# Altium integrated library TI Amplifiers and Linear Special Function Amplifier.IntLib: 708 symbols (part 30 of 47)
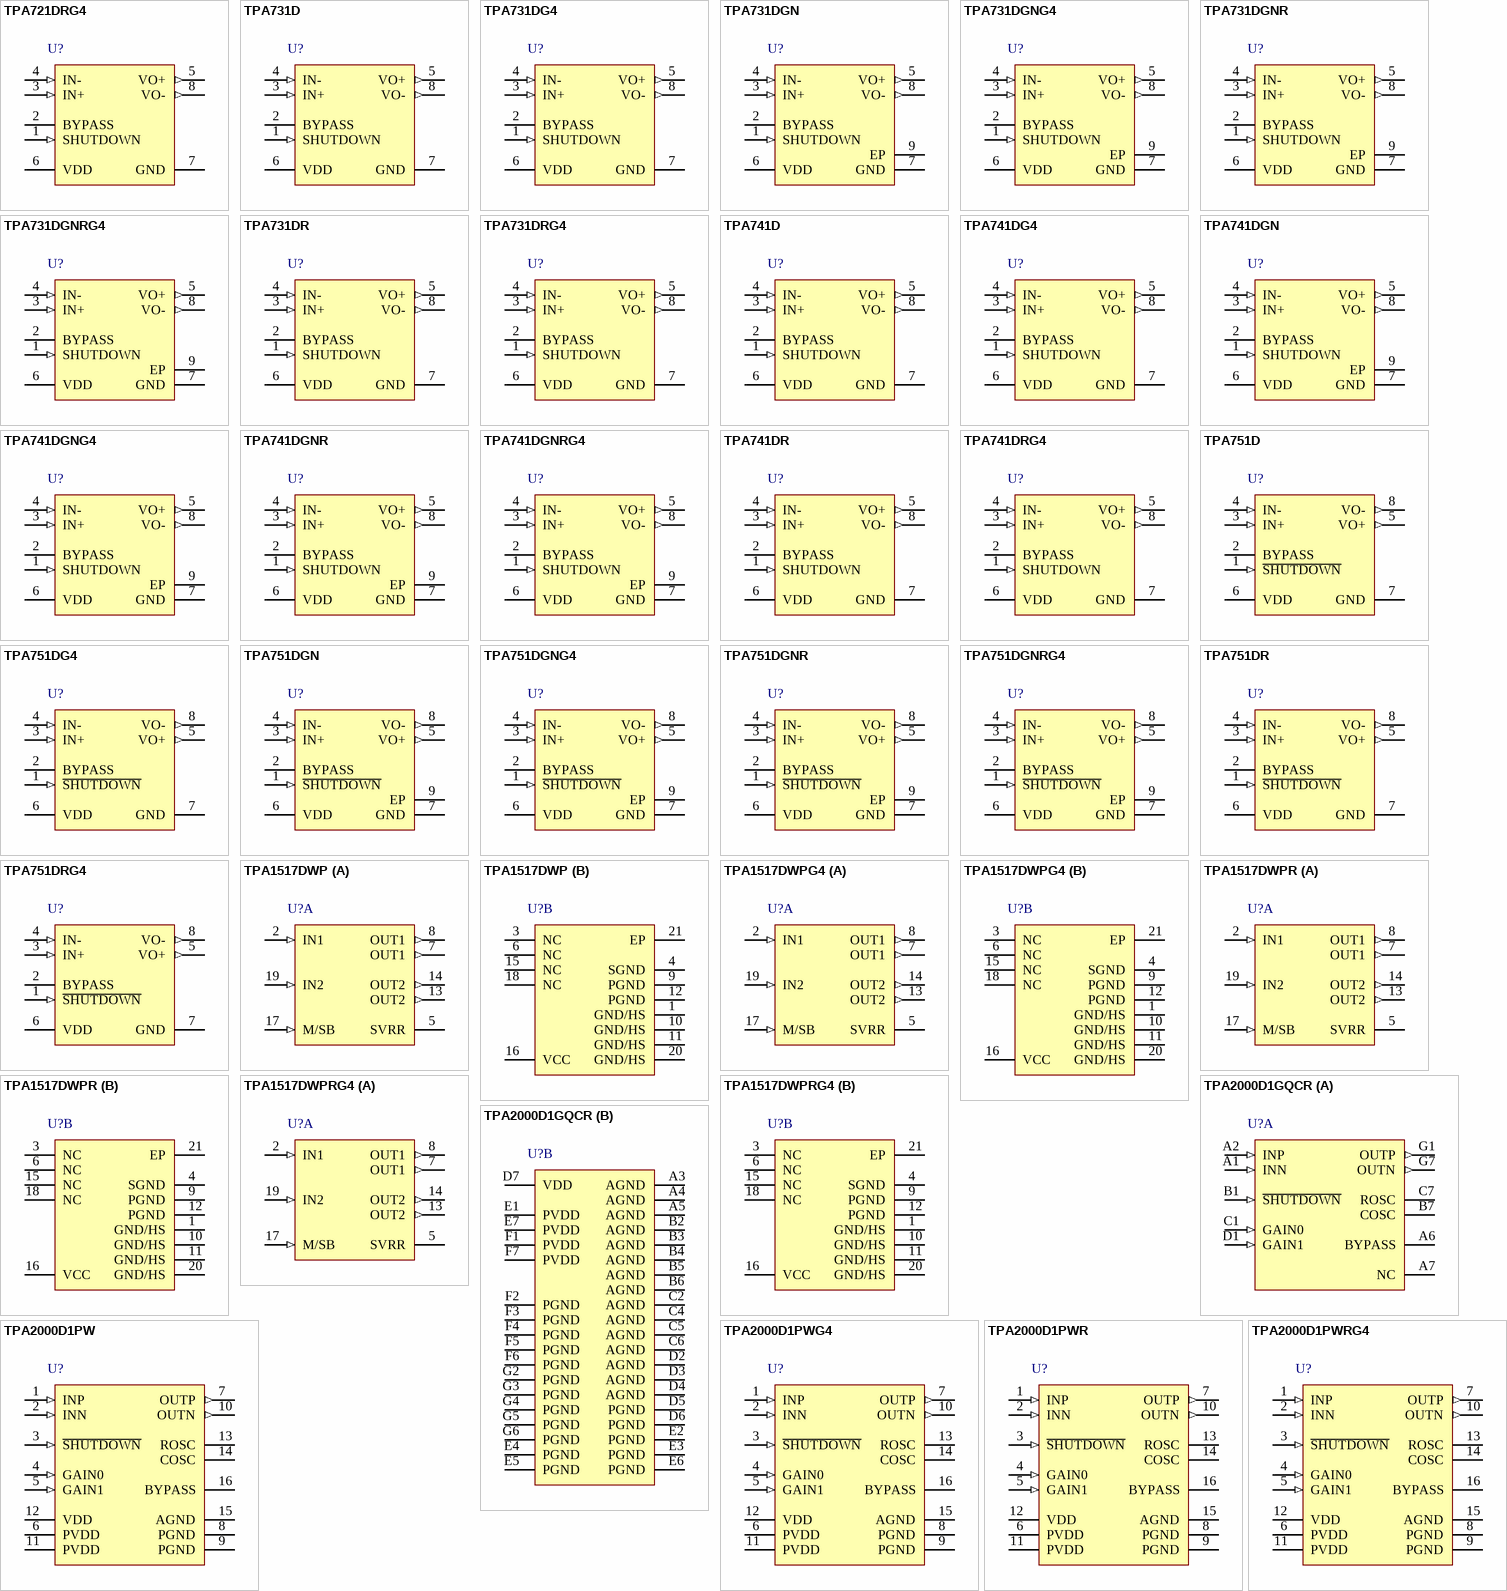
[diagram p68: symbols TPA721DRG4 to TPA2000D1PWRG4]

## TPA1517DWP
designator U?
Stereo, Medium Power, Class-AB Audio Amplifier, -40 to 85 degC, 20-pin SOP (DWP20), Green (RoHS & no Sb/Br); Manufacturer: Texas Instruments; PartNumber: TPA1517DWP; Analog Supply Max [V]: 18; Analog Supply Min [V]: 9.5; Input Type: Analog; Max. Number of Speaker Outputs: 2; SubFamily: Mid/High-Power Amplifier; DatasheetVersion: SLOS162D; PackageVersion: 4147575/C, 02/2005; PackageReference: DWP20-3905X3265TP; PackageDescription: 20-Pin PowerPAD(TM) Plastic Small-Outline Package, Body 12.825 x 7.52 mm, Pitch 1.27 mm; Supplier 1: Digi-Key; Supplier Part Number 1: 296-7007-5-ND; Supplier 2: Farnell; Supplier Part Number 2: 1212376; Supplier 3: Newark; Supplier Part Number 3: 74K3971; Supplier 4: Mouser; Supplier Part Number 4: 595-TPA1517DWP; Eco-Plan: Green (RoHS & no Sb/Br); Power Stage Supply Min(V): 9.5; Mounting Technology: Surface Mount; ComponentLink1Description: Manufacturer URL; ComponentLink1URL: http://www.ti.com/; ComponentLink2Description: Datasheet; ComponentLink2URL: http://www.ti.com/general/docs/lit/getliterature.tsp?genericPartNumber=TPA1517&fileType=pdf; ComponentLink3Description: Package Specification; ComponentLink3URL: http://www.ti.com/litv/pdf/mpds032b
footprint TI-DWP20-3905X3265TP_N (SOP, 20-Leads, Body 12.83x7.52mm, Pitch 1.27mm, Thermal Pad 4.32x3.81mm, IPC Medium Density)
footprint TI-DWP20-3905X3265TP_L (SOP, 20-Leads, Body 12.83x7.52mm, Pitch 1.27mm, Thermal Pad 4.32x3.81mm, IPC High Density)
footprint TI-DWP20-3905X3265TP_M (SOP, 20-Leads, Body 12.83x7.52mm, Pitch 1.27mm, Thermal Pad 4.32x3.81mm, IPC Low Density)
part A pins: 2 IN1 (in) "IN1 is the audio input for channel 1.", 5 SVRR "SVRR is the midrail bypass.", 7 OUT1 (out) "OUT1 is the audio output for channel 1.", 8 OUT1 (out) "OUT1 is the audio output for channel 1.", 13 OUT2 (out) "OUT2 is the audio output for channel 2.", 14 OUT2 (out) "OUT2 is the audio output for channel 2.", 17 M/SB (in) "M/SB is the mute/standby mode enable. When held at less than 2 V, this signal enables the TPA1517 for standby operation. When held between 3.5 V and 8.2 V, this signal enables the TPA1517 for mute operation. When held above (See Datasheet)", 19 IN2 (in) "IN2 in the audio input for channel 2."
part B pins: 1 GND/HS (power) "GND/HS are the ground and heatsink connections. All GND/HS terminals are connected directly to the mount pad for thermal-enhanced operation.", 3 NC "No connection", 4 SGND (power) "SGND is the input signal ground reference.", 6 NC "No connection", 9 PGND (power) "PGND is the power ground reference.", 10 GND/HS (power) "GND/HS are the ground and heatsink connections. All GND/HS terminals are connected directly to the mount pad for thermal-enhanced operation.", 11 GND/HS (power) "GND/HS are the ground and heatsink connections. All GND/HS terminals are connected directly to the mount pad for thermal-enhanced operation.", 12 PGND (power) "PGND is the power ground reference.", 15 NC "No connection", 16 VCC (power) "VCC is the supply voltage input.", 18 NC "No connection", 20 GND/HS (power) "GND/HS are the ground and heatsink connections. All GND/HS terminals are connected directly to the mount pad for thermal-enhanced operation.", 21 EP "Exposed Pad"

## TPA1517DWPG4
designator U?
Stereo, Medium Power, Class-AB Audio Amplifier, -40 to 85 degC, 20-pin SOP (DWP20), Green (RoHS & no Sb/Br); Manufacturer: Texas Instruments; PartNumber: TPA1517DWPG4; Analog Supply Max [V]: 18; Analog Supply Min [V]: 9.5; Input Type: Analog; Max. Number of Speaker Outputs: 2; SubFamily: Mid/High-Power Amplifier; DatasheetVersion: SLOS162D; PackageVersion: 4147575/C, 02/2005; PackageReference: DWP20-3905X3265TP; PackageDescription: 20-Pin PowerPAD(TM) Plastic Small-Outline Package, Body 12.825 x 7.52 mm, Pitch 1.27 mm; Supplier 1: Digi-Key; Supplier Part Number 1: TPA1517DWPG4-ND; Supplier 2: Newark; Supplier Part Number 2: 04M0229; Supplier 3: Mouser; Supplier Part Number 3: 595-TPA1517DWPG4; Eco-Plan: Green (RoHS & no Sb/Br); Power Stage Supply Min(V): 9.5; Mounting Technology: Surface Mount; ComponentLink1Description: Manufacturer URL; ComponentLink1URL: http://www.ti.com/; ComponentLink2Description: Datasheet; ComponentLink2URL: http://www.ti.com/general/docs/lit/getliterature.tsp?genericPartNumber=TPA1517&fileType=pdf; ComponentLink3Description: Package Specification; ComponentLink3URL: http://www.ti.com/litv/pdf/mpds032b
footprint TI-DWP20-3905X3265TP_N (SOP, 20-Leads, Body 12.83x7.52mm, Pitch 1.27mm, Thermal Pad 4.32x3.81mm, IPC Medium Density)
footprint TI-DWP20-3905X3265TP_L (SOP, 20-Leads, Body 12.83x7.52mm, Pitch 1.27mm, Thermal Pad 4.32x3.81mm, IPC High Density)
footprint TI-DWP20-3905X3265TP_M (SOP, 20-Leads, Body 12.83x7.52mm, Pitch 1.27mm, Thermal Pad 4.32x3.81mm, IPC Low Density)
part A pins: 2 IN1 (in) "IN1 is the audio input for channel 1.", 5 SVRR "SVRR is the midrail bypass.", 7 OUT1 (out) "OUT1 is the audio output for channel 1.", 8 OUT1 (out) "OUT1 is the audio output for channel 1.", 13 OUT2 (out) "OUT2 is the audio output for channel 2.", 14 OUT2 (out) "OUT2 is the audio output for channel 2.", 17 M/SB (in) "M/SB is the mute/standby mode enable. When held at less than 2 V, this signal enables the TPA1517 for standby operation. When held between 3.5 V and 8.2 V, this signal enables the TPA1517 for mute operation. When held above (See Datasheet)", 19 IN2 (in) "IN2 in the audio input for channel 2."
part B pins: 1 GND/HS (power) "GND/HS are the ground and heatsink connections. All GND/HS terminals are connected directly to the mount pad for thermal-enhanced operation.", 3 NC "No connection", 4 SGND (power) "SGND is the input signal ground reference.", 6 NC "No connection", 9 PGND (power) "PGND is the power ground reference.", 10 GND/HS (power) "GND/HS are the ground and heatsink connections. All GND/HS terminals are connected directly to the mount pad for thermal-enhanced operation.", 11 GND/HS (power) "GND/HS are the ground and heatsink connections. All GND/HS terminals are connected directly to the mount pad for thermal-enhanced operation.", 12 PGND (power) "PGND is the power ground reference.", 15 NC "No connection", 16 VCC (power) "VCC is the supply voltage input.", 18 NC "No connection", 20 GND/HS (power) "GND/HS are the ground and heatsink connections. All GND/HS terminals are connected directly to the mount pad for thermal-enhanced operation.", 21 EP "Exposed Pad"

## TPA1517DWPR
designator U?
Stereo, Medium Power, Class-AB Audio Amplifier, -40 to 85 degC, 20-pin SOP (DWP20), Green (RoHS & no Sb/Br); Manufacturer: Texas Instruments; PartNumber: TPA1517DWPR; Analog Supply Max [V]: 18; Analog Supply Min [V]: 9.5; Input Type: Analog; Max. Number of Speaker Outputs: 2; SubFamily: Mid/High-Power Amplifier; DatasheetVersion: SLOS162D; PackageVersion: 4147575/C, 02/2005; PackageReference: DWP20-3905X3265TP; PackageDescription: 20-Pin PowerPAD(TM) Plastic Small-Outline Package, Body 12.825 x 7.52 mm, Pitch 1.27 mm; Supplier 1: Digi-Key; Supplier Part Number 1: 296-7007-2-ND; Supplier 2: Digi-Key; Supplier Part Number 2: 296-7007-1-ND; Supplier 3: Digi-Key; Supplier Part Number 3: 296-7007-6-ND; Supplier 4: Farnell; Supplier Part Number 4: 1535751; Supplier 5: Newark; Supplier Part Number 5: 76C9773; Supplier 6: Mouser; Supplier Part Number 6: 595-TPA1517DWPR; Eco-Plan: Green (RoHS & no Sb/Br); Power Stage Supply Min(V): 9.5; Mounting Technology: Surface Mount; ComponentLink1Description: Manufacturer URL; ComponentLink1URL: http://www.ti.com/; ComponentLink2Description: Datasheet; ComponentLink2URL: http://www.ti.com/general/docs/lit/getliterature.tsp?genericPartNumber=TPA1517&fileType=pdf; ComponentLink3Description: Package Specification; ComponentLink3URL: http://www.ti.com/litv/pdf/mpds032b
footprint TI-DWP20-3905X3265TP_N (SOP, 20-Leads, Body 12.83x7.52mm, Pitch 1.27mm, Thermal Pad 4.32x3.81mm, IPC Medium Density)
footprint TI-DWP20-3905X3265TP_L (SOP, 20-Leads, Body 12.83x7.52mm, Pitch 1.27mm, Thermal Pad 4.32x3.81mm, IPC High Density)
footprint TI-DWP20-3905X3265TP_M (SOP, 20-Leads, Body 12.83x7.52mm, Pitch 1.27mm, Thermal Pad 4.32x3.81mm, IPC Low Density)
part A pins: 2 IN1 (in) "IN1 is the audio input for channel 1.", 5 SVRR "SVRR is the midrail bypass.", 7 OUT1 (out) "OUT1 is the audio output for channel 1.", 8 OUT1 (out) "OUT1 is the audio output for channel 1.", 13 OUT2 (out) "OUT2 is the audio output for channel 2.", 14 OUT2 (out) "OUT2 is the audio output for channel 2.", 17 M/SB (in) "M/SB is the mute/standby mode enable. When held at less than 2 V, this signal enables the TPA1517 for standby operation. When held between 3.5 V and 8.2 V, this signal enables the TPA1517 for mute operation. When held above (See Datasheet)", 19 IN2 (in) "IN2 in the audio input for channel 2."
part B pins: 1 GND/HS (power) "GND/HS are the ground and heatsink connections. All GND/HS terminals are connected directly to the mount pad for thermal-enhanced operation.", 3 NC "No connection", 4 SGND (power) "SGND is the input signal ground reference.", 6 NC "No connection", 9 PGND (power) "PGND is the power ground reference.", 10 GND/HS (power) "GND/HS are the ground and heatsink connections. All GND/HS terminals are connected directly to the mount pad for thermal-enhanced operation.", 11 GND/HS (power) "GND/HS are the ground and heatsink connections. All GND/HS terminals are connected directly to the mount pad for thermal-enhanced operation.", 12 PGND (power) "PGND is the power ground reference.", 15 NC "No connection", 16 VCC (power) "VCC is the supply voltage input.", 18 NC "No connection", 20 GND/HS (power) "GND/HS are the ground and heatsink connections. All GND/HS terminals are connected directly to the mount pad for thermal-enhanced operation.", 21 EP "Exposed Pad"

## TPA1517DWPRG4
designator U?
Stereo, Medium Power, Class-AB Audio Amplifier, -40 to 85 degC, 20-pin SOP (DWP20), Green (RoHS & no Sb/Br); Manufacturer: Texas Instruments; PartNumber: TPA1517DWPRG4; Analog Supply Max [V]: 18; Analog Supply Min [V]: 9.5; Input Type: Analog; Max. Number of Speaker Outputs: 2; SubFamily: Mid/High-Power Amplifier; DatasheetVersion: SLOS162D; PackageVersion: 4147575/C, 02/2005; PackageReference: DWP20-3905X3265TP; PackageDescription: 20-Pin PowerPAD(TM) Plastic Small-Outline Package, Body 12.825 x 7.52 mm, Pitch 1.27 mm; Supplier 1: Digi-Key; Supplier Part Number 1: TPA1517DWPRG4-ND; Supplier 2: Newark; Supplier Part Number 2: 24K5772; Supplier 3: Mouser; Supplier Part Number 3: 595-TPA1517DWPRG4; Eco-Plan: Green (RoHS & no Sb/Br); Power Stage Supply Min(V): 9.5; Mounting Technology: Surface Mount; ComponentLink1Description: Manufacturer URL; ComponentLink1URL: http://www.ti.com/; ComponentLink2Description: Datasheet; ComponentLink2URL: http://www.ti.com/general/docs/lit/getliterature.tsp?genericPartNumber=TPA1517&fileType=pdf; ComponentLink3Description: Package Specification; ComponentLink3URL: http://www.ti.com/litv/pdf/mpds032b
footprint TI-DWP20-3905X3265TP_N (SOP, 20-Leads, Body 12.83x7.52mm, Pitch 1.27mm, Thermal Pad 4.32x3.81mm, IPC Medium Density)
footprint TI-DWP20-3905X3265TP_L (SOP, 20-Leads, Body 12.83x7.52mm, Pitch 1.27mm, Thermal Pad 4.32x3.81mm, IPC High Density)
footprint TI-DWP20-3905X3265TP_M (SOP, 20-Leads, Body 12.83x7.52mm, Pitch 1.27mm, Thermal Pad 4.32x3.81mm, IPC Low Density)
part A pins: 2 IN1 (in) "IN1 is the audio input for channel 1.", 5 SVRR "SVRR is the midrail bypass.", 7 OUT1 (out) "OUT1 is the audio output for channel 1.", 8 OUT1 (out) "OUT1 is the audio output for channel 1.", 13 OUT2 (out) "OUT2 is the audio output for channel 2.", 14 OUT2 (out) "OUT2 is the audio output for channel 2.", 17 M/SB (in) "M/SB is the mute/standby mode enable. When held at less than 2 V, this signal enables the TPA1517 for standby operation. When held between 3.5 V and 8.2 V, this signal enables the TPA1517 for mute operation. When held above (See Datasheet)", 19 IN2 (in) "IN2 in the audio input for channel 2."
part B pins: 1 GND/HS (power) "GND/HS are the ground and heatsink connections. All GND/HS terminals are connected directly to the mount pad for thermal-enhanced operation.", 3 NC "No connection", 4 SGND (power) "SGND is the input signal ground reference.", 6 NC "No connection", 9 PGND (power) "PGND is the power ground reference.", 10 GND/HS (power) "GND/HS are the ground and heatsink connections. All GND/HS terminals are connected directly to the mount pad for thermal-enhanced operation.", 11 GND/HS (power) "GND/HS are the ground and heatsink connections. All GND/HS terminals are connected directly to the mount pad for thermal-enhanced operation.", 12 PGND (power) "PGND is the power ground reference.", 15 NC "No connection", 16 VCC (power) "VCC is the supply voltage input.", 18 NC "No connection", 20 GND/HS (power) "GND/HS are the ground and heatsink connections. All GND/HS terminals are connected directly to the mount pad for thermal-enhanced operation.", 21 EP "Exposed Pad"

## TPA2000D1GQCR
designator U?
2-W Mono Class-D Audio Amplifier, -40 to 85 degC, 48-pin BGA (GQC48); Manufacturer: Texas Instruments; PartNumber: TPA2000D1GQCR; Output Power(W): 2; PSRR(dB): -77; SubFamily: Dynamic Speaker; Supply Max(Max)(Volt): 5.5; Supply Min(Min)(Volt): 2.7; DatasheetVersion: SLOS328F; PackageVersion: 4200460/E, 01/2002; PackageReference: GQC48; PackageDescription: 48-Ball Plastic Grid Array, Body 4 x 4 mm, Pitch 0.5 mm; Supplier 1: Digi-Key; Supplier Part Number 1: 296-15638-2-ND; Supplier 2: Digi-Key; Supplier Part Number 2: 296-15638-1-ND; Supplier 3: Digi-Key; Supplier Part Number 3: 296-15638-6-ND; Supplier 4: Mouser; Supplier Part Number 4: 595-TPA2000D1GQCR; Speaker Amp Type: Class-D; Speaker Channels: Mono; Mounting Technology: Surface Mount; Code_JEDEC: MO-225; ComponentLink1Description: Manufacturer URL; ComponentLink1URL: http://www.ti.com/; ComponentLink2Description: Datasheet; ComponentLink2URL: http://www.ti.com/general/docs/lit/getliterature.tsp?genericPartNumber=TPA2000D1&fileType=pdf; ComponentLink3Description: Package Specification; ComponentLink3URL: http://www.ti.com/litv/pdf/mplg008d
footprint TI-GQC48 (BGA, 48-Balls, Body 4x4mm, Pitch 0.5mm)
part A pins: A1 INN (in) "Negative differential input", A2 INP (in) "Positive differential input", A6 BYPASS "Connect capacitor to ground for BYPASS voltage filtering.", A7 NC "No internal connection, still requires a pad for the ball.", B1 ~{SHUTDOWN} (in) "Places the amplifier in shutdown mode if a TTL logic low is placed on this terminal, and normal operation if a TTL logic high is placed on this terminal.", B7 COSC "Connect capacitor to ground to set oscillation frequency.", C1 GAIN0 (in) "Bit 0 of gain control (TTL logic level)", C7 ROSC "Connect resistor to ground to set oscillation frequency.", D1 GAIN1 (in) "Bit 1 of gain control (TTL logic level)", G1 OUTP (out) "Positive BTL output", G7 OUTN (out) "Negative BTL output"
part B pins: A3 AGND (power) "Analog ground", A4 AGND (power) "Analog ground", A5 AGND (power) "Analog ground", B2 AGND (power) "Analog ground", B3 AGND (power) "Analog ground", B4 AGND (power) "Analog ground", B5 AGND (power) "Analog ground", B6 AGND (power) "Analog ground", C2 AGND (power) "Analog ground", C4 AGND (power) "Analog ground", C5 AGND (power) "Analog ground", C6 AGND (power) "Analog ground", D2 AGND (power) "Analog ground", D3 AGND (power) "Analog ground", D4 AGND (power) "Analog ground", D5 PGND (power) "High-current grounds", D6 PGND (power) "High-current grounds", D7 VDD (power) "Analog power supply", E1 PVDD (power) "High-current power supplies", E2 PGND (power) "High-current grounds", E3 PGND (power) "High-current grounds", E4 PGND (power) "High-current grounds", E5 PGND (power) "High-current grounds", E6 PGND (power) "High-current grounds", E7 PVDD (power) "High-current power supplies", F1 PVDD (power) "High-current power supplies", F2 PGND (power) "High-current grounds", F3 PGND (power) "High-current grounds", F4 PGND (power) "High-current grounds", F5 PGND (power) "High-current grounds", F6 PGND (power) "High-current grounds", F7 PVDD (power) "High-current power supplies", G2 PGND (power) "High-current grounds", G3 PGND (power) "High-current grounds", G4 PGND (power) "High-current grounds", G5 PGND (power) "High-current grounds", G6 PGND (power) "High-current grounds"

## TPA2000D1PW
designator U?
2-W Mono Class-D Audio Amplifier, -40 to 85 degC, 16-pin SOP (PW16), Green (RoHS & no Sb/Br); Manufacturer: Texas Instruments; PartNumber: TPA2000D1PW; Output Power(W): 2; PSRR(dB): -77; SubFamily: Dynamic Speaker; Supply Max(Max)(Volt): 5.5; Supply Min(Min)(Volt): 2.7; DatasheetVersion: SLOS328F; PackageVersion: 4040064-4/G, 02/2011; PackageReference: PW16; PackageDescription: 16-Pin Plastic Small Outline, Body 5 x 4.4 mm, Pitch 0.65 mm; Supplier 1: Digi-Key; Supplier Part Number 1: 296-7009-5-ND; Supplier 2: Mouser; Supplier Part Number 2: 595-TPA2000D1PW; Eco-Plan: Green (RoHS & no Sb/Br); Speaker Amp Type: Class-D; Speaker Channels: Mono; Mounting Technology: Surface Mount; Code_JEDEC: MO-153; ComponentLink1Description: Manufacturer URL; ComponentLink1URL: http://www.ti.com/; ComponentLink2Description: Datasheet; ComponentLink2URL: http://www.ti.com/general/docs/lit/getliterature.tsp?genericPartNumber=TPA2000D1&fileType=pdf; ComponentLink3Description: Package Specification; ComponentLink3URL: http://www.ti.com/lit/ml/mpds361/mpds361.pdf
footprint TI-PW16_N (SOP, 16-Leads, Body 5.1x4.5mm, Pitch 0.65mm, IPC Medium Density)
footprint TI-PW16_L (SOP, 16-Leads, Body 5.1x4.5mm, Pitch 0.65mm, IPC High Density)
footprint TI-PW16_M (SOP, 16-Leads, Body 5.1x4.5mm, Pitch 0.65mm, IPC Low Density)
pins: 1 INP (in) "Positive differential input", 2 INN (in) "Negative differential input", 3 ~{SHUTDOWN} (in) "Places the amplifier in shutdown mode if a TTL logic low is placed on this terminal, and normal operation if a TTL logic high is placed on this terminal.", 4 GAIN0 (in) "Bit 0 of gain control (TTL logic level)", 5 GAIN1 (in) "Bit 1 of gain control (TTL logic level)", 6 PVDD (power) "High-current power supplies", 7 OUTP (out) "Positive BTL output", 8 PGND (power) "High-current grounds", 9 PGND (power) "High-current grounds", 10 OUTN (out) "Negative BTL output", 11 PVDD (power) "High-current power supplies", 12 VDD (power) "Analog power supply", 13 ROSC "Connect resistor to ground to set oscillation frequency.", 14 COSC "Connect capacitor to ground to set oscillation frequency.", 15 AGND (power) "Analog ground", 16 BYPASS "Connect capacitor to ground for BYPASS voltage filtering."

## TPA2000D1PWG4
designator U?
2-W Mono Class-D Audio Amplifier, -40 to 85 degC, 16-pin SOP (PW16), Green (RoHS & no Sb/Br); Manufacturer: Texas Instruments; PartNumber: TPA2000D1PWG4; Output Power(W): 2; PSRR(dB): -77; SubFamily: Dynamic Speaker; Supply Max(Max)(Volt): 5.5; Supply Min(Min)(Volt): 2.7; DatasheetVersion: SLOS328F; PackageVersion: 4040064-4/G, 02/2011; PackageReference: PW16; PackageDescription: 16-Pin Plastic Small Outline, Body 5 x 4.4 mm, Pitch 0.65 mm; Supplier 1: Digi-Key; Supplier Part Number 1: TPA2000D1PWG4-ND; Supplier 2: Farnell; Supplier Part Number 2: 1207309; Supplier 3: Newark; Supplier Part Number 3: 62M0661; Supplier 4: Newark; Supplier Part Number 4: 73K9574; Supplier 5: Mouser; Supplier Part Number 5: 595-TPA2000D1PWG4; Eco-Plan: Green (RoHS & no Sb/Br); Speaker Amp Type: Class-D; Speaker Channels: Mono; Mounting Technology: Surface Mount; Code_JEDEC: MO-153; ComponentLink1Description: Manufacturer URL; ComponentLink1URL: http://www.ti.com/; ComponentLink2Description: Datasheet; ComponentLink2URL: http://www.ti.com/general/docs/lit/getliterature.tsp?genericPartNumber=TPA2000D1&fileType=pdf; ComponentLink3Description: Package Specification; ComponentLink3URL: http://www.ti.com/lit/ml/mpds361/mpds361.pdf
footprint TI-PW16_N (SOP, 16-Leads, Body 5.1x4.5mm, Pitch 0.65mm, IPC Medium Density)
footprint TI-PW16_L (SOP, 16-Leads, Body 5.1x4.5mm, Pitch 0.65mm, IPC High Density)
footprint TI-PW16_M (SOP, 16-Leads, Body 5.1x4.5mm, Pitch 0.65mm, IPC Low Density)
pins: 1 INP (in) "Positive differential input", 2 INN (in) "Negative differential input", 3 ~{SHUTDOWN} (in) "Places the amplifier in shutdown mode if a TTL logic low is placed on this terminal, and normal operation if a TTL logic high is placed on this terminal.", 4 GAIN0 (in) "Bit 0 of gain control (TTL logic level)", 5 GAIN1 (in) "Bit 1 of gain control (TTL logic level)", 6 PVDD (power) "High-current power supplies", 7 OUTP (out) "Positive BTL output", 8 PGND (power) "High-current grounds", 9 PGND (power) "High-current grounds", 10 OUTN (out) "Negative BTL output", 11 PVDD (power) "High-current power supplies", 12 VDD (power) "Analog power supply", 13 ROSC "Connect resistor to ground to set oscillation frequency.", 14 COSC "Connect capacitor to ground to set oscillation frequency.", 15 AGND (power) "Analog ground", 16 BYPASS "Connect capacitor to ground for BYPASS voltage filtering."

## TPA2000D1PWR
designator U?
2-W Mono Class-D Audio Amplifier, -40 to 85 degC, 16-pin SOP (PW16), Green (RoHS & no Sb/Br); Manufacturer: Texas Instruments; PartNumber: TPA2000D1PWR; Output Power(W): 2; PSRR(dB): -77; SubFamily: Dynamic Speaker; Supply Max(Max)(Volt): 5.5; Supply Min(Min)(Volt): 2.7; DatasheetVersion: SLOS328F; PackageVersion: 4040064-4/G, 02/2011; PackageReference: PW16; PackageDescription: 16-Pin Plastic Small Outline, Body 5 x 4.4 mm, Pitch 0.65 mm; Supplier 1: Digi-Key; Supplier Part Number 1: TPA2000D1PWR-ND; Supplier 2: Newark; Supplier Part Number 2: 76C9780; Supplier 3: Mouser; Supplier Part Number 3: 595-TPA2000D1PWR; Eco-Plan: Green (RoHS & no Sb/Br); Speaker Amp Type: Class-D; Speaker Channels: Mono; Mounting Technology: Surface Mount; Code_JEDEC: MO-153; ComponentLink1Description: Manufacturer URL; ComponentLink1URL: http://www.ti.com/; ComponentLink2Description: Datasheet; ComponentLink2URL: http://www.ti.com/general/docs/lit/getliterature.tsp?genericPartNumber=TPA2000D1&fileType=pdf; ComponentLink3Description: Package Specification; ComponentLink3URL: http://www.ti.com/lit/ml/mpds361/mpds361.pdf
footprint TI-PW16_N (SOP, 16-Leads, Body 5.1x4.5mm, Pitch 0.65mm, IPC Medium Density)
footprint TI-PW16_L (SOP, 16-Leads, Body 5.1x4.5mm, Pitch 0.65mm, IPC High Density)
footprint TI-PW16_M (SOP, 16-Leads, Body 5.1x4.5mm, Pitch 0.65mm, IPC Low Density)
pins: 1 INP (in) "Positive differential input", 2 INN (in) "Negative differential input", 3 ~{SHUTDOWN} (in) "Places the amplifier in shutdown mode if a TTL logic low is placed on this terminal, and normal operation if a TTL logic high is placed on this terminal.", 4 GAIN0 (in) "Bit 0 of gain control (TTL logic level)", 5 GAIN1 (in) "Bit 1 of gain control (TTL logic level)", 6 PVDD (power) "High-current power supplies", 7 OUTP (out) "Positive BTL output", 8 PGND (power) "High-current grounds", 9 PGND (power) "High-current grounds", 10 OUTN (out) "Negative BTL output", 11 PVDD (power) "High-current power supplies", 12 VDD (power) "Analog power supply", 13 ROSC "Connect resistor to ground to set oscillation frequency.", 14 COSC "Connect capacitor to ground to set oscillation frequency.", 15 AGND (power) "Analog ground", 16 BYPASS "Connect capacitor to ground for BYPASS voltage filtering."

## TPA2000D1PWRG4
designator U?
2-W Mono Class-D Audio Amplifier, -40 to 85 degC, 16-pin SOP (PW16), Green (RoHS & no Sb/Br); Manufacturer: Texas Instruments; PartNumber: TPA2000D1PWRG4; Output Power(W): 2; PSRR(dB): -77; SubFamily: Dynamic Speaker; Supply Max(Max)(Volt): 5.5; Supply Min(Min)(Volt): 2.7; DatasheetVersion: SLOS328F; PackageVersion: 4040064-4/G, 02/2011; PackageReference: PW16; PackageDescription: 16-Pin Plastic Small Outline, Body 5 x 4.4 mm, Pitch 0.65 mm; Supplier 1: Digi-Key; Supplier Part Number 1: TPA2000D1PWRG4-ND; Supplier 2: Newark; Supplier Part Number 2: 58K6870; Supplier 3: Mouser; Supplier Part Number 3: 595-TPA2000D1PWRG4; Eco-Plan: Green (RoHS & no Sb/Br); Speaker Amp Type: Class-D; Speaker Channels: Mono; Mounting Technology: Surface Mount; Code_JEDEC: MO-153; ComponentLink1Description: Manufacturer URL; ComponentLink1URL: http://www.ti.com/; ComponentLink2Description: Datasheet; ComponentLink2URL: http://www.ti.com/general/docs/lit/getliterature.tsp?genericPartNumber=TPA2000D1&fileType=pdf; ComponentLink3Description: Package Specification; ComponentLink3URL: http://www.ti.com/lit/ml/mpds361/mpds361.pdf
footprint TI-PW16_N (SOP, 16-Leads, Body 5.1x4.5mm, Pitch 0.65mm, IPC Medium Density)
footprint TI-PW16_L (SOP, 16-Leads, Body 5.1x4.5mm, Pitch 0.65mm, IPC High Density)
footprint TI-PW16_M (SOP, 16-Leads, Body 5.1x4.5mm, Pitch 0.65mm, IPC Low Density)
pins: 1 INP (in) "Positive differential input", 2 INN (in) "Negative differential input", 3 ~{SHUTDOWN} (in) "Places the amplifier in shutdown mode if a TTL logic low is placed on this terminal, and normal operation if a TTL logic high is placed on this terminal.", 4 GAIN0 (in) "Bit 0 of gain control (TTL logic level)", 5 GAIN1 (in) "Bit 1 of gain control (TTL logic level)", 6 PVDD (power) "High-current power supplies", 7 OUTP (out) "Positive BTL output", 8 PGND (power) "High-current grounds", 9 PGND (power) "High-current grounds", 10 OUTN (out) "Negative BTL output", 11 PVDD (power) "High-current power supplies", 12 VDD (power) "Analog power supply", 13 ROSC "Connect resistor to ground to set oscillation frequency.", 14 COSC "Connect capacitor to ground to set oscillation frequency.", 15 AGND (power) "Analog ground", 16 BYPASS "Connect capacitor to ground for BYPASS voltage filtering."

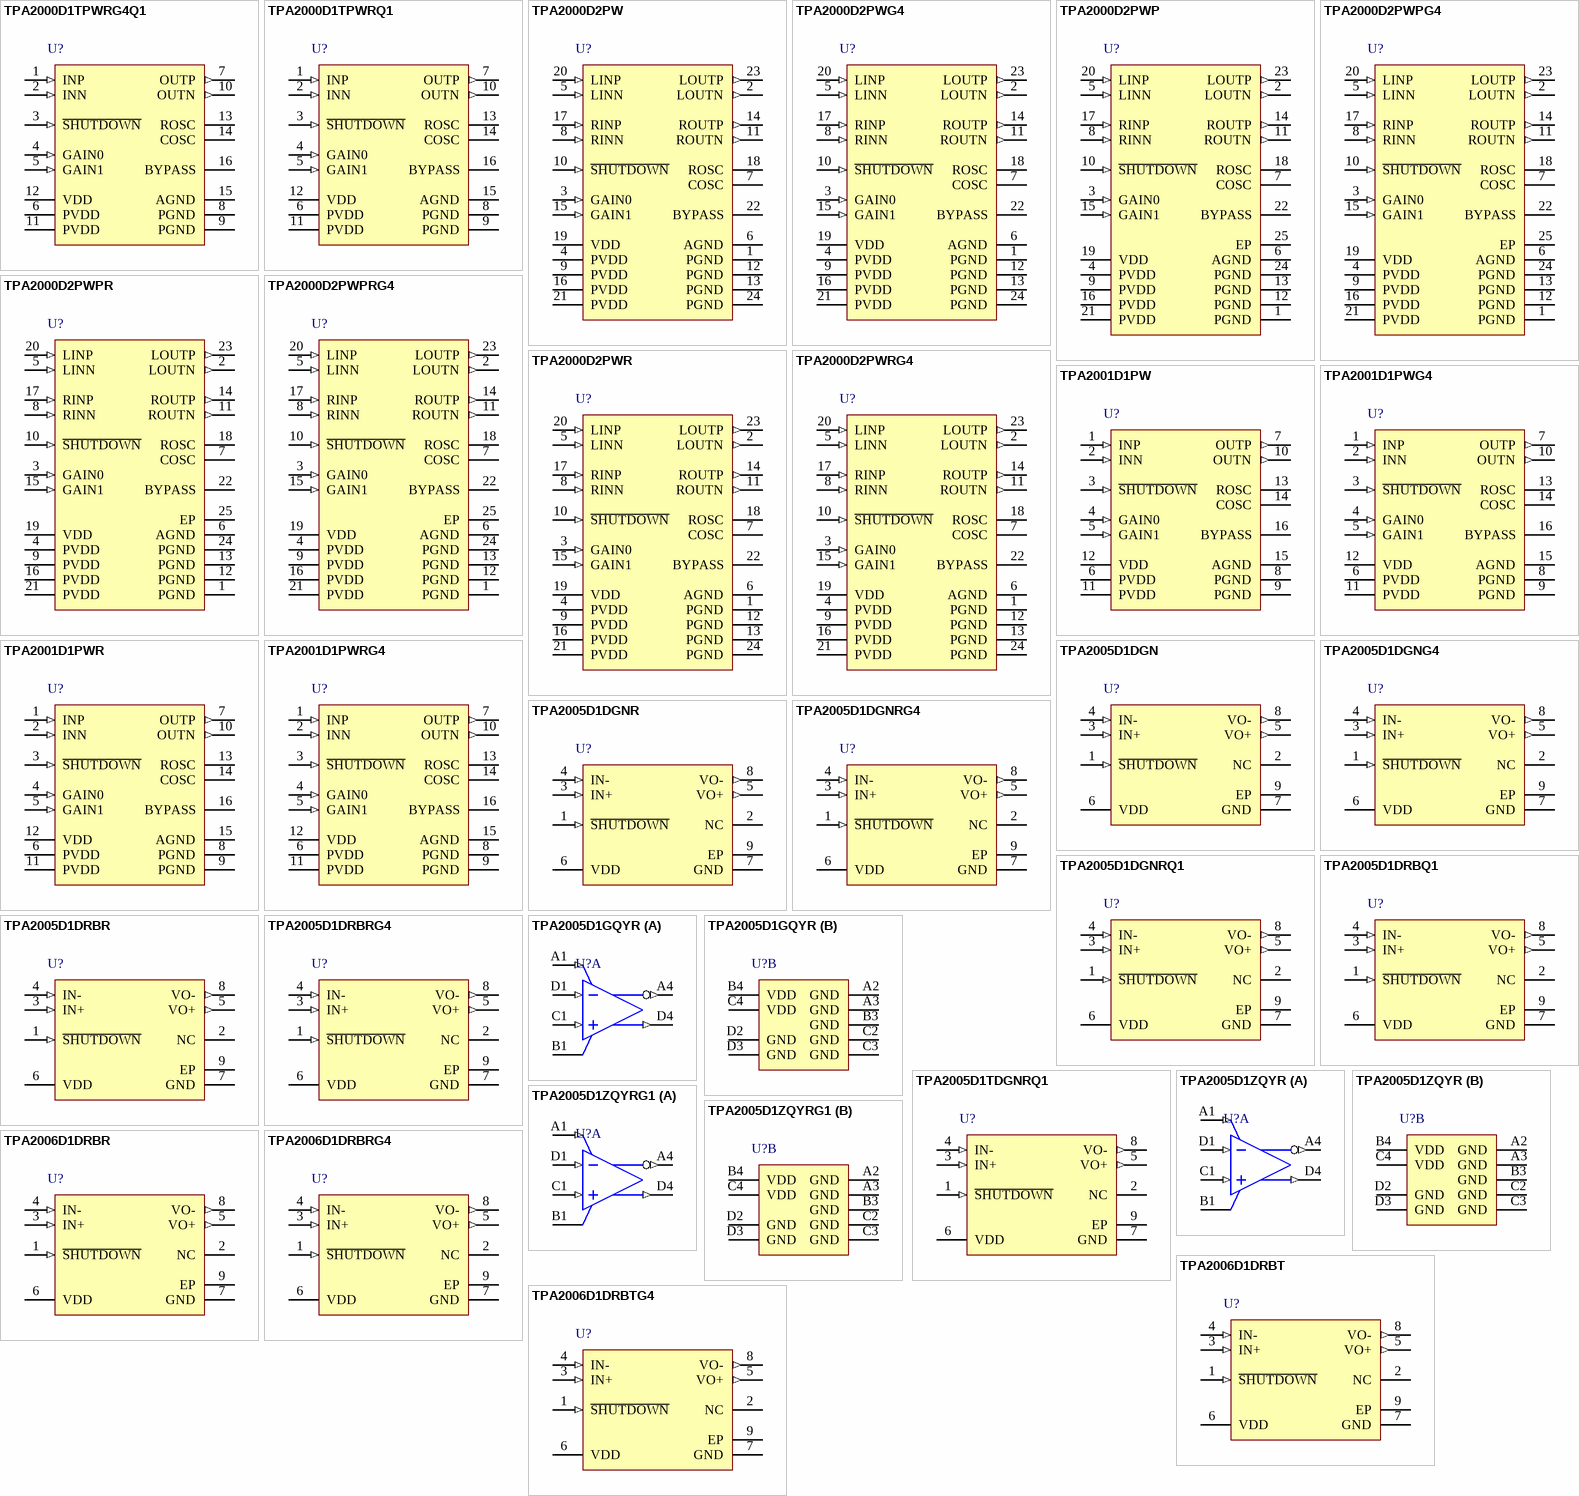
[diagram p27: symbols TPA2000D1TPWRG4Q1 to TPA2006D1DRBTG4]

## TPA2000D1TPWRG4Q1
designator U?
Automotive Catalog Mono Filter-Free Class-D Audio Amplifier, -40 to 105 degC, 16-pin SOP (PW16), Green (RoHS & no Sb/Br); Manufacturer: Texas Instruments; PartNumber: TPA2000D1TPWRG4Q1; Output Power(W): 2; PSRR(dB): -77; SubFamily: Dynamic Speaker; Supply Max(Max)(Volt): 5.5; Supply Min(Min)(Volt): 2.7; DatasheetVersion: SGLS137E; PackageVersion: 4040064-4/G, 02/2011; PackageReference: PW16; PackageDescription: 16-Pin Plastic Small Outline, Body 5 x 4.4 mm, Pitch 0.65 mm; Supplier 1: Digi-Key; Supplier Part Number 1: 296-24318-2-ND; Supplier 2: Digi-Key; Supplier Part Number 2: 296-24318-1-ND; Supplier 3: Digi-Key; Supplier Part Number 3: 296-24318-6-ND; Supplier 4: Mouser; Supplier Part Number 4: 595-PA2000D1TPWRG4Q1; Eco-Plan: Green (RoHS & no Sb/Br); Speaker Amp Type: Class-D; Speaker Channels: Mono; Mounting Technology: Surface Mount; Code_JEDEC: MO-153; ComponentLink1Description: Manufacturer URL; ComponentLink1URL: http://www.ti.com/; ComponentLink2Description: Datasheet; ComponentLink2URL: http://www.ti.com/general/docs/lit/getliterature.tsp?genericPartNumber=TPA2000D1-Q1&fileType=pdf; ComponentLink3Description: Package Specification; ComponentLink3URL: http://www.ti.com/lit/ml/mpds361/mpds361.pdf
footprint TI-PW16_N (SOP, 16-Leads, Body 5.1x4.5mm, Pitch 0.65mm, IPC Medium Density)
footprint TI-PW16_L (SOP, 16-Leads, Body 5.1x4.5mm, Pitch 0.65mm, IPC High Density)
footprint TI-PW16_M (SOP, 16-Leads, Body 5.1x4.5mm, Pitch 0.65mm, IPC Low Density)
pins: 1 INP (in) "Positive differential input", 2 INN (in) "Negative differential input", 3 ~{SHUTDOWN} (in) "Places the amplifier in shutdown mode if a TTL logic low is placed on this terminal, and normal operation if a TTL logic high is placed on this terminal.", 4 GAIN0 (in) "Bit 0 of gain control (TTL logic level)", 5 GAIN1 (in) "Bit 1 of gain control (TTL logic level)", 6 PVDD (power) "High-current power supplies", 7 OUTP (out) "Positive BTL output", 8 PGND (power) "High-current grounds", 9 PGND (power) "High-current grounds", 10 OUTN (out) "Negative BTL output", 11 PVDD (power) "High-current power supplies", 12 VDD (power) "Analog power supply", 13 ROSC "Connect resistor to ground to set oscillation frequency.", 14 COSC "Connect capacitor to ground to set oscillation frequency.", 15 AGND (power) "Analog ground", 16 BYPASS "Connect capacitor to ground for BYPASS voltage filtering."

## TPA2000D1TPWRQ1
designator U?
Automotive Catalog Mono Filter-Free Class-D Audio Amplifier, -40 to 105 degC, 16-pin SOP (PW16), Green (RoHS & no Sb/Br); Manufacturer: Texas Instruments; PartNumber: TPA2000D1TPWRQ1; Output Power(W): 2; PSRR(dB): -77; SubFamily: Dynamic Speaker; Supply Max(Max)(Volt): 5.5; Supply Min(Min)(Volt): 2.7; DatasheetVersion: SGLS137E; PackageVersion: 4040064-4/G, 02/2011; PackageReference: PW16; PackageDescription: 16-Pin Plastic Small Outline, Body 5 x 4.4 mm, Pitch 0.65 mm; Supplier 1: Digi-Key; Supplier Part Number 1: 296-18920-2-ND; Supplier 2: Digi-Key; Supplier Part Number 2: 296-18920-1-ND; Supplier 3: Digi-Key; Supplier Part Number 3: 296-18920-6-ND; Supplier 4: Mouser; Supplier Part Number 4: 595-TPA2000D1TPWRQ1; Eco-Plan: Green (RoHS & no Sb/Br); Speaker Amp Type: Class-D; Speaker Channels: Mono; Mounting Technology: Surface Mount; Code_JEDEC: MO-153; ComponentLink1Description: Manufacturer URL; ComponentLink1URL: http://www.ti.com/; ComponentLink2Description: Datasheet; ComponentLink2URL: http://www.ti.com/general/docs/lit/getliterature.tsp?genericPartNumber=TPA2000D1-Q1&fileType=pdf; ComponentLink3Description: Package Specification; ComponentLink3URL: http://www.ti.com/lit/ml/mpds361/mpds361.pdf
footprint TI-PW16_N (SOP, 16-Leads, Body 5.1x4.5mm, Pitch 0.65mm, IPC Medium Density)
footprint TI-PW16_L (SOP, 16-Leads, Body 5.1x4.5mm, Pitch 0.65mm, IPC High Density)
footprint TI-PW16_M (SOP, 16-Leads, Body 5.1x4.5mm, Pitch 0.65mm, IPC Low Density)
pins: 1 INP (in) "Positive differential input", 2 INN (in) "Negative differential input", 3 ~{SHUTDOWN} (in) "Places the amplifier in shutdown mode if a TTL logic low is placed on this terminal, and normal operation if a TTL logic high is placed on this terminal.", 4 GAIN0 (in) "Bit 0 of gain control (TTL logic level)", 5 GAIN1 (in) "Bit 1 of gain control (TTL logic level)", 6 PVDD (power) "High-current power supplies", 7 OUTP (out) "Positive BTL output", 8 PGND (power) "High-current grounds", 9 PGND (power) "High-current grounds", 10 OUTN (out) "Negative BTL output", 11 PVDD (power) "High-current power supplies", 12 VDD (power) "Analog power supply", 13 ROSC "Connect resistor to ground to set oscillation frequency.", 14 COSC "Connect capacitor to ground to set oscillation frequency.", 15 AGND (power) "Analog ground", 16 BYPASS "Connect capacitor to ground for BYPASS voltage filtering."

## TPA2000D2PW
designator U?
2-W Stereo Class-D Audio Amplifier, -40 to 85 degC, 24-pin SOP (PW24), Green (RoHS & no Sb/Br); Manufacturer: Texas Instruments; PartNumber: TPA2000D2PW; Output Power(W): 2; PSRR(dB): 77; SubFamily: Dynamic Speaker; Supply Max(Max)(Volt): 5.5; Supply Min(Min)(Volt): 4.5; DatasheetVersion: SLOS291F; PackageVersion: 4040064-6/G, 02/2011; PackageReference: PW24; PackageDescription: 24-Pin Plastic Small Outline, Body 7.8 x 4.4 mm, Pitch 0.65 mm; Supplier 1: Digi-Key; Supplier Part Number 1: 296-34552-5-ND; Supplier 2: Mouser; Supplier Part Number 2: 595-TPA2000D2PW; Eco-Plan: Green (RoHS & no Sb/Br); Speaker Amp Type: Class-D; Speaker Channels: Stereo; Mounting Technology: Surface Mount; Code_JEDEC: MO-153; ComponentLink1Description: Manufacturer URL; ComponentLink1URL: http://www.ti.com/; ComponentLink2Description: Datasheet; ComponentLink2URL: http://www.ti.com/general/docs/lit/getliterature.tsp?genericPartNumber=TPA2000D2&fileType=pdf; ComponentLink3Description: Package Specification; ComponentLink3URL: http://www.ti.com/litv/pdf/mpds363
footprint TI-PW24_N (SOP, 24-Leads, Body 7.8x4.4mm, Pitch 0.65mm, IPC Medium Density)
footprint TI-PW24_L (SOP, 24-Leads, Body 7.8x4.4mm, Pitch 0.65mm, IPC High Density)
footprint TI-PW24_M (SOP, 24-Leads, Body 7.8x4.4mm, Pitch 0.65mm, IPC Low Density)
pins: 1 PGND (power) "Power ground for left channel H-bridge", 2 LOUTN (out) "Left channel negative audio output", 3 GAIN0 (in) "Bit 0 of gain control (TTL logic level)", 4 PVDD (power) "Power supply for left channel H-bridge", 5 LINN (in) "Left channel negative differential audio input", 6 AGND (power) "Analog ground", 7 COSC "A capacitor connected to this terminal sets the oscillation frequency in conjunction with ROSC. For proper operation, connect a 220 pF capacitor from COSC to ground.", 8 RINN (in) "Right channel negative differential audio input", 9 PVDD (power) "Power supply for right channel H-bridge", 10 ~{SHUTDOWN} (in) "Places the amplifier in shutdown mode if a TTL logic low is placed on this terminal; normal operation if a TTL logic high is placed on this terminal.", 11 ROUTN (out) "Right channel negative audio output", 12 PGND (power) "Power ground for right channel H-bridge", 13 PGND (power) "Power ground for right channel H-bridge", 14 ROUTP (out) "Right channel positive output", 15 GAIN1 (in) "Bit 1 of gain control (TTL logic level)", 16 PVDD (power) "Power supply for right channel H-bridge", 17 RINP (in) "Right channel positive differential audio input", 18 ROSC "A resistor connected to this terminal sets the oscillation frequency in conjunction with COSC. For proper operation, connect a 120 k ohm resistor from ROSC to ground.", 19 VDD (power) "Analog power supply", 20 LINP (in) "Left channel positive differential audio input", 21 PVDD (power) "Power supply for left channel H-bridge", 22 BYPASS "Tap to voltage divider for internal midsupply bias generator used for analog reference.", 23 LOUTP (out) "Left channel positive audio output", 24 PGND (power) "Power ground for left channel H-bridge"

## TPA2000D2PWG4
designator U?
2-W Stereo Class-D Audio Amplifier, -40 to 85 degC, 24-pin SOP (PW24), Green (RoHS & no Sb/Br); Manufacturer: Texas Instruments; PartNumber: TPA2000D2PWG4; Output Power(W): 2; PSRR(dB): 77; SubFamily: Dynamic Speaker; Supply Max(Max)(Volt): 5.5; Supply Min(Min)(Volt): 4.5; DatasheetVersion: SLOS291F; PackageVersion: 4040064-6/G, 02/2011; PackageReference: PW24; PackageDescription: 24-Pin Plastic Small Outline, Body 7.8 x 4.4 mm, Pitch 0.65 mm; Supplier 1: Digi-Key; Supplier Part Number 1: TPA2000D2PWG4-ND; Supplier 2: Mouser; Supplier Part Number 2: 595-TPA2000D2PWG4; Eco-Plan: Green (RoHS & no Sb/Br); Speaker Amp Type: Class-D; Speaker Channels: Stereo; Mounting Technology: Surface Mount; Code_JEDEC: MO-153; ComponentLink1Description: Manufacturer URL; ComponentLink1URL: http://www.ti.com/; ComponentLink2Description: Datasheet; ComponentLink2URL: http://www.ti.com/general/docs/lit/getliterature.tsp?genericPartNumber=TPA2000D2&fileType=pdf; ComponentLink3Description: Package Specification; ComponentLink3URL: http://www.ti.com/litv/pdf/mpds363
footprint TI-PW24_N (SOP, 24-Leads, Body 7.8x4.4mm, Pitch 0.65mm, IPC Medium Density)
footprint TI-PW24_L (SOP, 24-Leads, Body 7.8x4.4mm, Pitch 0.65mm, IPC High Density)
footprint TI-PW24_M (SOP, 24-Leads, Body 7.8x4.4mm, Pitch 0.65mm, IPC Low Density)
pins: 1 PGND (power) "Power ground for left channel H-bridge", 2 LOUTN (out) "Left channel negative audio output", 3 GAIN0 (in) "Bit 0 of gain control (TTL logic level)", 4 PVDD (power) "Power supply for left channel H-bridge", 5 LINN (in) "Left channel negative differential audio input", 6 AGND (power) "Analog ground", 7 COSC "A capacitor connected to this terminal sets the oscillation frequency in conjunction with ROSC. For proper operation, connect a 220 pF capacitor from COSC to ground.", 8 RINN (in) "Right channel negative differential audio input", 9 PVDD (power) "Power supply for right channel H-bridge", 10 ~{SHUTDOWN} (in) "Places the amplifier in shutdown mode if a TTL logic low is placed on this terminal; normal operation if a TTL logic high is placed on this terminal.", 11 ROUTN (out) "Right channel negative audio output", 12 PGND (power) "Power ground for right channel H-bridge", 13 PGND (power) "Power ground for right channel H-bridge", 14 ROUTP (out) "Right channel positive output", 15 GAIN1 (in) "Bit 1 of gain control (TTL logic level)", 16 PVDD (power) "Power supply for right channel H-bridge", 17 RINP (in) "Right channel positive differential audio input", 18 ROSC "A resistor connected to this terminal sets the oscillation frequency in conjunction with COSC. For proper operation, connect a 120 k ohm resistor from ROSC to ground.", 19 VDD (power) "Analog power supply", 20 LINP (in) "Left channel positive differential audio input", 21 PVDD (power) "Power supply for left channel H-bridge", 22 BYPASS "Tap to voltage divider for internal midsupply bias generator used for analog reference.", 23 LOUTP (out) "Left channel positive audio output", 24 PGND (power) "Power ground for left channel H-bridge"

## TPA2000D2PWP
designator U?
2-W Stereo Class-D Audio Amplifier, -40 to 85 degC, 24-pin SOP (PWP24), Green (RoHS & no Sb/Br); Manufacturer: Texas Instruments; PartNumber: TPA2000D2PWP; Output Power(W): 2; PSRR(dB): 77; SubFamily: Dynamic Speaker; Supply Max(Max)(Volt): 5.5; Supply Min(Min)(Volt): 4.5; DatasheetVersion: SLOS291F; PackageVersion: 4073225-5/I, 05/2011; PackageReference: PWP24-4420X1950TP; PackageDescription: 24-Pin Plastic Small Outline, Body 4.4 x 7.8 mm, Pitch 0.65 mm; Supplier 1: Digi-Key; Supplier Part Number 1: 296-2467-5-ND; Supplier 2: Newark; Supplier Part Number 2: 19C9029; Supplier 3: Mouser; Supplier Part Number 3: 595-TPA2000D2PWP; Eco-Plan: Green (RoHS & no Sb/Br); Speaker Amp Type: Class-D; Speaker Channels: Stereo; Mounting Technology: Surface Mount; Code_JEDEC: MO-153; ComponentLink1Description: Manufacturer URL; ComponentLink1URL: http://www.ti.com/; ComponentLink2Description: Datasheet; ComponentLink2URL: http://www.ti.com/general/docs/lit/getliterature.tsp?genericPartNumber=TPA2000D2&fileType=pdf; ComponentLink3Description: Package Specification; ComponentLink3URL: http://www.ti.com/lit/ds/symlink/tps65101.pdf
footprint TI-PWP24-4420X1950TP_N (SOP, 24-Leads, Body 7.9x4.5mm, Pitch 0.65mm, Thermal Pad 4.87x2.4mm, IPC Medium Density)
footprint TI-PWP24-4420X1950TP_L (SOP, 24-Leads, Body 7.9x4.5mm, Pitch 0.65mm, Thermal Pad 4.87x2.4mm, IPC High Density)
footprint TI-PWP24-4420X1950TP_M (SOP, 24-Leads, Body 7.9x4.5mm, Pitch 0.65mm, Thermal Pad 4.87x2.4mm, IPC Low Density)
pins: 1 PGND (power) "Power ground for left channel H-bridge", 2 LOUTN (out) "Left channel negative audio output", 3 GAIN0 (in) "Bit 0 of gain control (TTL logic level)", 4 PVDD (power) "Power supply for left channel H-bridge", 5 LINN (in) "Left channel negative differential audio input", 6 AGND (power) "Analog ground", 7 COSC "A capacitor connected to this terminal sets the oscillation frequency in conjunction with ROSC. For proper operation, connect a 220 pF capacitor from COSC to ground.", 8 RINN (in) "Right channel negative differential audio input", 9 PVDD (power) "Power supply for right channel H-bridge", 10 ~{SHUTDOWN} (in) "Places the amplifier in shutdown mode if a TTL logic low is placed on this terminal; normal operation if a TTL logic high is placed on this terminal.", 11 ROUTN (out) "Right channel negative audio output", 12 PGND (power) "Power ground for right channel H-bridge", 13 PGND (power) "Power ground for right channel H-bridge", 14 ROUTP (out) "Right channel positive output", 15 GAIN1 (in) "Bit 1 of gain control (TTL logic level)", 16 PVDD (power) "Power supply for right channel H-bridge", 17 RINP (in) "Right channel positive differential audio input", 18 ROSC "A resistor connected to this terminal sets the oscillation frequency in conjunction with COSC. For proper operation, connect a 120 k ohm resistor from ROSC to ground.", 19 VDD (power) "Analog power supply", 20 LINP (in) "Left channel positive differential audio input", 21 PVDD (power) "Power supply for left channel H-bridge", 22 BYPASS "Tap to voltage divider for internal midsupply bias generator used for analog reference.", 23 LOUTP (out) "Left channel positive audio output", 24 PGND (power) "Power ground for left channel H-bridge", 25 EP

## TPA2000D2PWPG4
designator U?
2-W Stereo Class-D Audio Amplifier, -40 to 85 degC, 24-pin SOP (PWP24), Green (RoHS & no Sb/Br); Manufacturer: Texas Instruments; PartNumber: TPA2000D2PWPG4; Output Power(W): 2; PSRR(dB): 77; SubFamily: Dynamic Speaker; Supply Max(Max)(Volt): 5.5; Supply Min(Min)(Volt): 4.5; DatasheetVersion: SLOS291F; PackageVersion: 4073225-5/I, 05/2011; PackageReference: PWP24-4420X1950TP; PackageDescription: 24-Pin Plastic Small Outline, Body 4.4 x 7.8 mm, Pitch 0.65 mm; Supplier 1: Digi-Key; Supplier Part Number 1: TPA2000D2PWPG4-ND; Supplier 2: Mouser; Supplier Part Number 2: 595-TPA2000D2PWPG4; Eco-Plan: Green (RoHS & no Sb/Br); Speaker Amp Type: Class-D; Speaker Channels: Stereo; Mounting Technology: Surface Mount; Code_JEDEC: MO-153; ComponentLink1Description: Manufacturer URL; ComponentLink1URL: http://www.ti.com/; ComponentLink2Description: Datasheet; ComponentLink2URL: http://www.ti.com/general/docs/lit/getliterature.tsp?genericPartNumber=TPA2000D2&fileType=pdf; ComponentLink3Description: Package Specification; ComponentLink3URL: http://www.ti.com/lit/ds/symlink/tps65101.pdf
footprint TI-PWP24-4420X1950TP_N (SOP, 24-Leads, Body 7.9x4.5mm, Pitch 0.65mm, Thermal Pad 4.87x2.4mm, IPC Medium Density)
footprint TI-PWP24-4420X1950TP_L (SOP, 24-Leads, Body 7.9x4.5mm, Pitch 0.65mm, Thermal Pad 4.87x2.4mm, IPC High Density)
footprint TI-PWP24-4420X1950TP_M (SOP, 24-Leads, Body 7.9x4.5mm, Pitch 0.65mm, Thermal Pad 4.87x2.4mm, IPC Low Density)
pins: 1 PGND (power) "Power ground for left channel H-bridge", 2 LOUTN (out) "Left channel negative audio output", 3 GAIN0 (in) "Bit 0 of gain control (TTL logic level)", 4 PVDD (power) "Power supply for left channel H-bridge", 5 LINN (in) "Left channel negative differential audio input", 6 AGND (power) "Analog ground", 7 COSC "A capacitor connected to this terminal sets the oscillation frequency in conjunction with ROSC. For proper operation, connect a 220 pF capacitor from COSC to ground.", 8 RINN (in) "Right channel negative differential audio input", 9 PVDD (power) "Power supply for right channel H-bridge", 10 ~{SHUTDOWN} (in) "Places the amplifier in shutdown mode if a TTL logic low is placed on this terminal; normal operation if a TTL logic high is placed on this terminal.", 11 ROUTN (out) "Right channel negative audio output", 12 PGND (power) "Power ground for right channel H-bridge", 13 PGND (power) "Power ground for right channel H-bridge", 14 ROUTP (out) "Right channel positive output", 15 GAIN1 (in) "Bit 1 of gain control (TTL logic level)", 16 PVDD (power) "Power supply for right channel H-bridge", 17 RINP (in) "Right channel positive differential audio input", 18 ROSC "A resistor connected to this terminal sets the oscillation frequency in conjunction with COSC. For proper operation, connect a 120 k ohm resistor from ROSC to ground.", 19 VDD (power) "Analog power supply", 20 LINP (in) "Left channel positive differential audio input", 21 PVDD (power) "Power supply for left channel H-bridge", 22 BYPASS "Tap to voltage divider for internal midsupply bias generator used for analog reference.", 23 LOUTP (out) "Left channel positive audio output", 24 PGND (power) "Power ground for left channel H-bridge", 25 EP

## TPA2000D2PWPR
designator U?
2-W Stereo Class-D Audio Amplifier, -40 to 85 degC, 24-pin SOP (PWP24), Green (RoHS & no Sb/Br); Manufacturer: Texas Instruments; PartNumber: TPA2000D2PWPR; Output Power(W): 2; PSRR(dB): 77; SubFamily: Dynamic Speaker; Supply Max(Max)(Volt): 5.5; Supply Min(Min)(Volt): 4.5; DatasheetVersion: SLOS291F; PackageVersion: 4073225-5/I, 05/2011; PackageReference: PWP24-4420X1950TP; PackageDescription: 24-Pin Plastic Small Outline, Body 4.4 x 7.8 mm, Pitch 0.65 mm; Supplier 1: Digi-Key; Supplier Part Number 1: 296-2467-2-ND; Supplier 2: Digi-Key; Supplier Part Number 2: 296-2467-1-ND; Supplier 3: Digi-Key; Supplier Part Number 3: 296-2467-6-ND; Supplier 4: Newark; Supplier Part Number 4: 76C9782; Supplier 5: Mouser; Supplier Part Number 5: 595-TPA2000D2PWPR; Eco-Plan: Green (RoHS & no Sb/Br); Speaker Amp Type: Class-D; Speaker Channels: Stereo; Mounting Technology: Surface Mount; Code_JEDEC: MO-153; ComponentLink1Description: Manufacturer URL; ComponentLink1URL: http://www.ti.com/; ComponentLink2Description: Datasheet; ComponentLink2URL: http://www.ti.com/general/docs/lit/getliterature.tsp?genericPartNumber=TPA2000D2&fileType=pdf; ComponentLink3Description: Package Specification; ComponentLink3URL: http://www.ti.com/lit/ds/symlink/tps65101.pdf
footprint TI-PWP24-4420X1950TP_N (SOP, 24-Leads, Body 7.9x4.5mm, Pitch 0.65mm, Thermal Pad 4.87x2.4mm, IPC Medium Density)
footprint TI-PWP24-4420X1950TP_L (SOP, 24-Leads, Body 7.9x4.5mm, Pitch 0.65mm, Thermal Pad 4.87x2.4mm, IPC High Density)
footprint TI-PWP24-4420X1950TP_M (SOP, 24-Leads, Body 7.9x4.5mm, Pitch 0.65mm, Thermal Pad 4.87x2.4mm, IPC Low Density)
pins: 1 PGND (power) "Power ground for left channel H-bridge", 2 LOUTN (out) "Left channel negative audio output", 3 GAIN0 (in) "Bit 0 of gain control (TTL logic level)", 4 PVDD (power) "Power supply for left channel H-bridge", 5 LINN (in) "Left channel negative differential audio input", 6 AGND (power) "Analog ground", 7 COSC "A capacitor connected to this terminal sets the oscillation frequency in conjunction with ROSC. For proper operation, connect a 220 pF capacitor from COSC to ground.", 8 RINN (in) "Right channel negative differential audio input", 9 PVDD (power) "Power supply for right channel H-bridge", 10 ~{SHUTDOWN} (in) "Places the amplifier in shutdown mode if a TTL logic low is placed on this terminal; normal operation if a TTL logic high is placed on this terminal.", 11 ROUTN (out) "Right channel negative audio output", 12 PGND (power) "Power ground for right channel H-bridge", 13 PGND (power) "Power ground for right channel H-bridge", 14 ROUTP (out) "Right channel positive output", 15 GAIN1 (in) "Bit 1 of gain control (TTL logic level)", 16 PVDD (power) "Power supply for right channel H-bridge", 17 RINP (in) "Right channel positive differential audio input", 18 ROSC "A resistor connected to this terminal sets the oscillation frequency in conjunction with COSC. For proper operation, connect a 120 k ohm resistor from ROSC to ground.", 19 VDD (power) "Analog power supply", 20 LINP (in) "Left channel positive differential audio input", 21 PVDD (power) "Power supply for left channel H-bridge", 22 BYPASS "Tap to voltage divider for internal midsupply bias generator used for analog reference.", 23 LOUTP (out) "Left channel positive audio output", 24 PGND (power) "Power ground for left channel H-bridge", 25 EP

## TPA2000D2PWPRG4
designator U?
2-W Stereo Class-D Audio Amplifier, -40 to 85 degC, 24-pin SOP (PWP24), Green (RoHS & no Sb/Br); Manufacturer: Texas Instruments; PartNumber: TPA2000D2PWPRG4; Output Power(W): 2; PSRR(dB): 77; SubFamily: Dynamic Speaker; Supply Max(Max)(Volt): 5.5; Supply Min(Min)(Volt): 4.5; DatasheetVersion: SLOS291F; PackageVersion: 4073225-5/I, 05/2011; PackageReference: PWP24-4420X1950TP; PackageDescription: 24-Pin Plastic Small Outline, Body 4.4 x 7.8 mm, Pitch 0.65 mm; Supplier 1: Digi-Key; Supplier Part Number 1: TPA2000D2PWPRG4-ND; Supplier 2: Mouser; Supplier Part Number 2: 595-TPA2000D2PWPRG4; Eco-Plan: Green (RoHS & no Sb/Br); Speaker Amp Type: Class-D; Speaker Channels: Stereo; Mounting Technology: Surface Mount; Code_JEDEC: MO-153; ComponentLink1Description: Manufacturer URL; ComponentLink1URL: http://www.ti.com/; ComponentLink2Description: Datasheet; ComponentLink2URL: http://www.ti.com/general/docs/lit/getliterature.tsp?genericPartNumber=TPA2000D2&fileType=pdf; ComponentLink3Description: Package Specification; ComponentLink3URL: http://www.ti.com/lit/ds/symlink/tps65101.pdf
footprint TI-PWP24-4420X1950TP_N (SOP, 24-Leads, Body 7.9x4.5mm, Pitch 0.65mm, Thermal Pad 4.87x2.4mm, IPC Medium Density)
footprint TI-PWP24-4420X1950TP_L (SOP, 24-Leads, Body 7.9x4.5mm, Pitch 0.65mm, Thermal Pad 4.87x2.4mm, IPC High Density)
footprint TI-PWP24-4420X1950TP_M (SOP, 24-Leads, Body 7.9x4.5mm, Pitch 0.65mm, Thermal Pad 4.87x2.4mm, IPC Low Density)
pins: 1 PGND (power) "Power ground for left channel H-bridge", 2 LOUTN (out) "Left channel negative audio output", 3 GAIN0 (in) "Bit 0 of gain control (TTL logic level)", 4 PVDD (power) "Power supply for left channel H-bridge", 5 LINN (in) "Left channel negative differential audio input", 6 AGND (power) "Analog ground", 7 COSC "A capacitor connected to this terminal sets the oscillation frequency in conjunction with ROSC. For proper operation, connect a 220 pF capacitor from COSC to ground.", 8 RINN (in) "Right channel negative differential audio input", 9 PVDD (power) "Power supply for right channel H-bridge", 10 ~{SHUTDOWN} (in) "Places the amplifier in shutdown mode if a TTL logic low is placed on this terminal; normal operation if a TTL logic high is placed on this terminal.", 11 ROUTN (out) "Right channel negative audio output", 12 PGND (power) "Power ground for right channel H-bridge", 13 PGND (power) "Power ground for right channel H-bridge", 14 ROUTP (out) "Right channel positive output", 15 GAIN1 (in) "Bit 1 of gain control (TTL logic level)", 16 PVDD (power) "Power supply for right channel H-bridge", 17 RINP (in) "Right channel positive differential audio input", 18 ROSC "A resistor connected to this terminal sets the oscillation frequency in conjunction with COSC. For proper operation, connect a 120 k ohm resistor from ROSC to ground.", 19 VDD (power) "Analog power supply", 20 LINP (in) "Left channel positive differential audio input", 21 PVDD (power) "Power supply for left channel H-bridge", 22 BYPASS "Tap to voltage divider for internal midsupply bias generator used for analog reference.", 23 LOUTP (out) "Left channel positive audio output", 24 PGND (power) "Power ground for left channel H-bridge", 25 EP